# Altium footprint library Header_KYCON_KPJS_4S.PcbLib: 1 footprints
Each footprint in its own frame and in the unit in brackets; x right, y up, seen from the top. Pads: shape width x height; smd on the part's side, far side on the other; paste and mask are expansions set on the pad; w line width, h text height; cw(c..) or ccw(c..) is an arc to the next point about the centre after c.
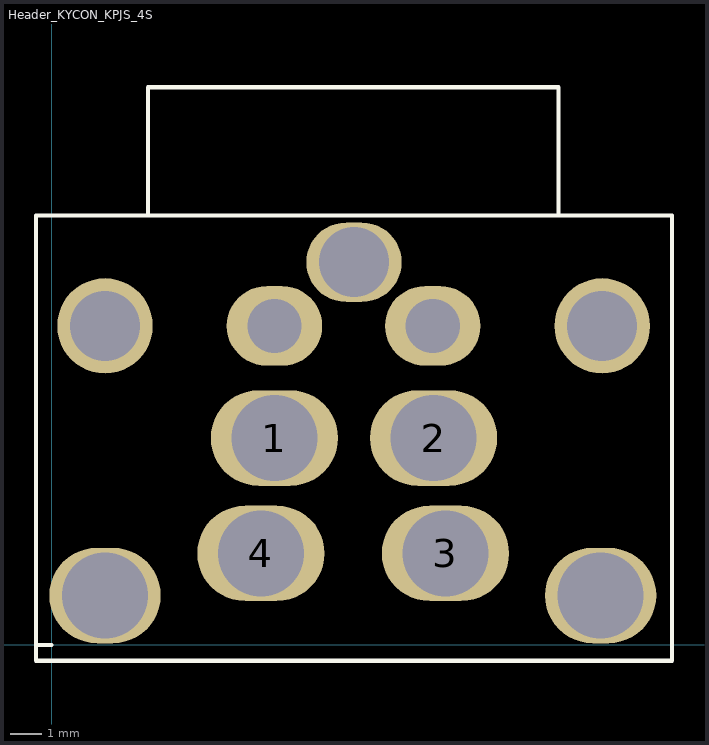
[diagram p0: the footprint, top view; thin cyan lines are the x and y axes]

## Header_KYCON_KPJS_4S [mm]
height 15
pads (11):
  oval 4x3 hole 2.7: 1(7,6.5) 2(12,6.5) 3(12.375,2.875) 4(6.575,2.875)
  oval 3.5x3 hole 2.7: ""(1.675,1.55) ""(17.25,1.55)
  round 3 hole 2.2: ""(1.675,10.025) ""(17.3,10.025)
  oval 3x2.5 hole 1.7: ""(7,10.025) ""(11.975,10.025)
  oval 3x2.5 hole 2.2: ""(9.5,12.025)
Top Overlay:
  lines w0.127: 0,0 -0.5,0 ; 3.029,13.537 3.029,17.525 15.931,17.525 15.931,13.52 ; -0.5,0 -0.5,13.5 0,13.5 19,13.5 19.5,13.5 19.5,-0.5 -0.5,-0.5 -0.5,0